# Altium footprint library PCBLibrary.PcbLib: 7 footprints
Each footprint in its own frame and in the unit in brackets; x right, y up, seen from the top. Pads: shape width x height; smd on the part's side, far side on the other; paste and mask are expansions set on the pad; w line width, h text height; cw(c..) or ccw(c..) is an arc to the next point about the centre after c.
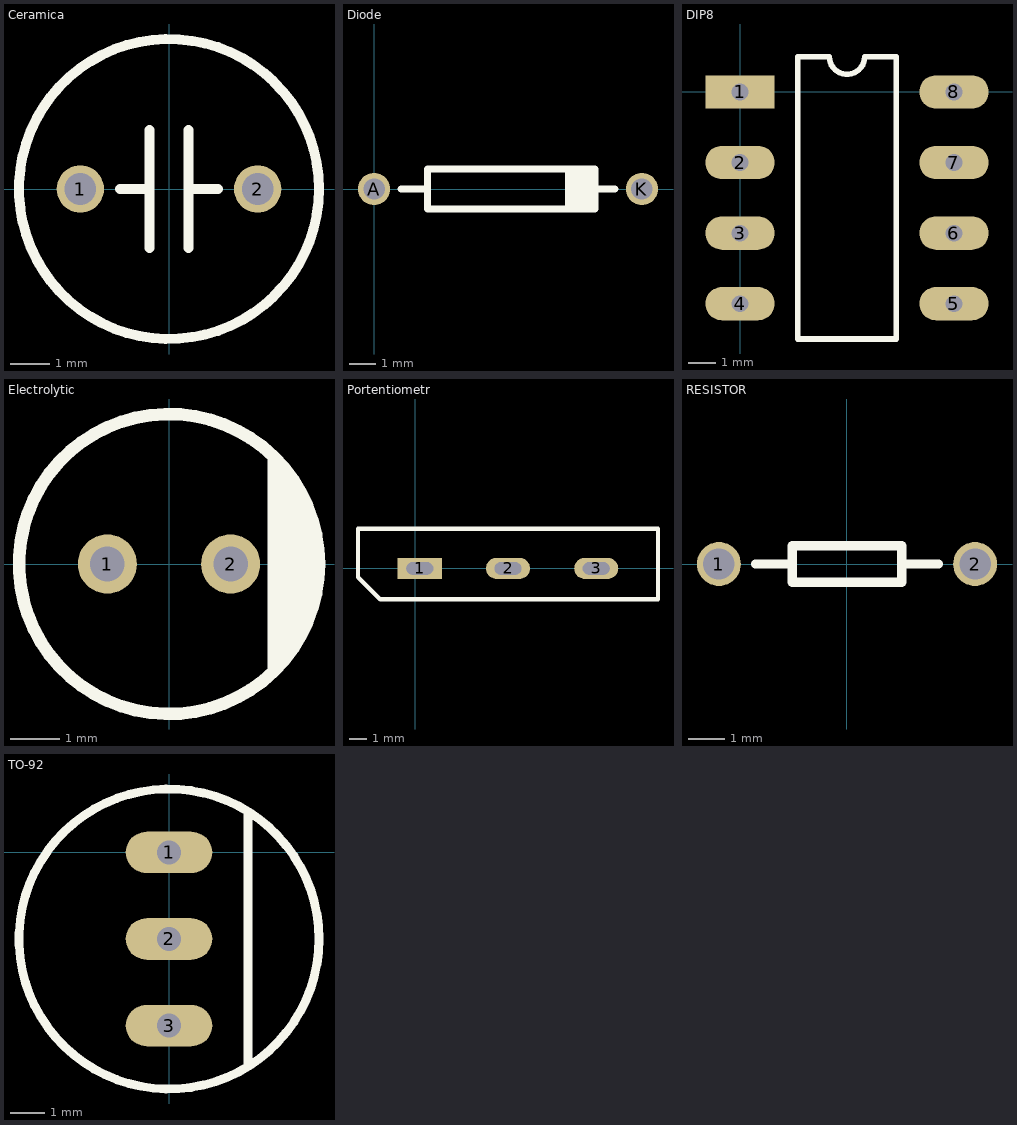
[diagram p0: the footprints below, top view; thin cyan lines are the x and y axes]

## Ceramica [mm]
pads (2):
  round 1.2 hole 0.8: 1(-2.25,0) 2(2.25,0)
Top Overlay:
  circle w0.254: c0,0 r3.808
  lines w0.254: -1.25,0 -0.5,0 -0.5,1.5 -0.5,-1.5 ; 1.25,0 0.5,0 ; 0.5,0 0.5,-1.5 0.5,1.5 0.5,0
3D body "Keramica.step": height 3.46, standoff -1, extent -2.639,-1.115 2.598,1.061

## Diode [mm]
pads (2):
  round 1.2 hole 0.8: A(0,0) K(10,0)
Top Overlay:
  region: 7.25,0.75 7.25,-0.75 8.25,-0.75 8.25,0.75
  lines w0.254: 1,0 2,0 ; 7.25,-0.75 7.25,0.75 ; 2,0 2,0.75 8.25,0.75 8.25,0 ; 2,0 2,-0.75 8.25,-0.75 8.25,0 ; 8.25,0 9,0 8.25,0
3D body "CircuitWorks-DIODE0_4.step": height 3.06, standoff -2.03, extent -0.508,-1.295 10.414,1.27

## DIP8 [mm]
pads (8):
  rect 2.5x1.2 hole 0.6: 1(0,0)
  oval 2.5x1.2 hole 0.6: 2(0,-2.54) 3(0,-5.08) 4(0,-7.62) 5(7.7,-7.62) 6(7.7,-5.08) 7(7.7,-2.54) 8(7.7,0)
Top Overlay:
  lines w0.2: 2.085,-8.89 2.085,1.27 3.215,1.27 ccw(c3.85,1.27) 4.485,1.27 5.615,1.27 5.615,-8.89 2.085,-8.89
3D body "LM741.step": height 5.87, standoff -3.02, extent -0.124,-8.544 7.75,1.044

## Electrolytic [mm]
pads (2):
  round 1.2 hole 0.7: 1(-1.25,0) 2(1.25,0)
Top Overlay:
  circle w0.254: c0,0 r3.041
  region: 2,2.25 2.75,1.5 2.75,0.25 3,0.5 3,0.041 3.041,0 2.75,-0.291 2.75,-1.5 2,-2.25
  region: 3,-0.75 3,1 2.5,1.5 2.5,-1.5
  region: 2,2.25 2,-2.25 2.375,-1.875 2.375,1.875
3D body "Electrolit.step": height 7.8, standoff -3.5, extent -2.045,-2.25 2.045,1.75

## Portentiometr [mm]
pads (3):
  rect 2.5x1.2 hole 0.7 slot 1.524 at 0 deg: 1(0.25,0)
  oval 2.5x1.2 hole 0.7 slot 1.524 at 0 deg: 2(5.25,0) 3(10.25,0)
Top Overlay:
  lines w0.254: -3.25,-0.5 -3.25,2.25 13.75,2.25 13.75,-1.75 -2,-1.75 -3.25,-0.5
3D body "Pot mono.step": height 21.8, standoff -2.75, extent -3.216,-19.92 13.884,5.08

## RESISTOR [mm]
pads (2):
  round 1.2 hole 0.86: 1(-3.5,0) 2(3.5,0)
Top Overlay:
  lines w0.254: -2.5,0 -1.5,0 ; 1.5,0 2.5,0 ; -1.5,0 -1.5,0.5 1.5,0.5 1.5,-0.5 -1.5,-0.5 -1.5,0
3D body "R - 2 red.step": height 3.3, standoff -2.2, extent -3.752,-1.25 3.752,1.25

## TO-92 [mm]
pads (3):
  oval 2.5x1.2 hole 0.7: 1(0,0) 2(0,-2.5) 3(0,-5)
Top Overlay:
  circle w0.254: c0,-2.5 r4.334
  lines w0.254: 2.286,-6.096 2.286,1.143
3D body "ALSRobot-TO-92W.step": height 7.75, standoff -3.55, extent -1.558,-5.207 2.542,0.324